# EAGLE library part 62000711622 (library WR-WTB)
WR-WTB 2.00 mm Male Vertical Shrouded Header Kind Properties Pitch 2 mm Gender Male Type Vertical General Information Operating Temperature -40 °C up to +105 °C Working Voltage 250 V (AC) Withstanding Voltage 1000 V (AC) Contact Resistance 20 mΩ RISO 1000 MΩ Pitch 2.54 mm Gender Male Type Right Angled Top Locking Material Properties Insulator Material Nylon 66 Insulator Flammability Rating UL94 V-0 Insulator Color Beige Contact Material Copper Alloy Contact Plating Tin Contact Type Stamped Certification UL Approval E323964 Packaging Properties Packaging Bag <https://www.we-online.com/components/media/o33351v209%20Multi-WR-WTB200-6200xx11622.jpg> Details see: www.we-online.com/en/components/products/WTB_2_00_MALE_VERTICAL_SHROUDED_HEADER_6200XX11622 <www.we-online.com/catalog/WTB_2_00_MALE_VERTICAL_SHROUDED_HEADER_6200XX11622/?utm_source=eagle_model&utm_medium=description_link&utm_campaign=eisos_eagle> Updated by Ella 2025-03-06 2025 (C) Würth Elektronik
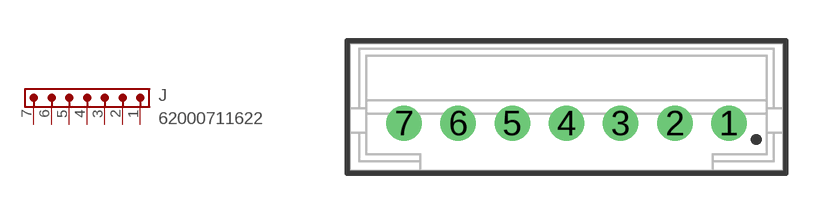
[diagram p27: symbol with the pads of 62000711622; footprint 62000711622]

Designator prefix J

## 62000711622 (CONTACT-RESISTANCE: 20mOhm; DATASHEET-URL: https://www.we-online.com/redexpert/spec/62000711622?ae; GENDER: Male; IR: 2A; L: 16mm; MOUNT: THT; PACKAGING: Bag; PART-NUMBER: 62000711622; PCB-CABLE-PANEL: PCB; PINS: 7; PITCH: 2mm; TYPE: Vertical; VALUE: 62000711622; WORKING-VOLTAGE: 125V(AC))  [62000711622]
1  1  pas
2  2  pas
3  3  pas
4  4  pas
5  5  pas
6  6  pas
7  7  pas

## Footprint 62000711622 (pad centres in mm)
WR-WTB 2.00 mm Male Vertical Shrouded Header,7 Pins
drill 0.8: 1 6,-0.6; 2 4,-0.6; 3 2,-0.6; 4 0,-0.6; 5 -2,-0.6; 6 -4,-0.6; 7 -6,-0.6